# Altium footprint library 10POS JST.PcbLib: 1 footprints
Each footprint in its own frame and in the unit in brackets; x right, y up, seen from the top. Pads: shape width x height; smd on the part's side, far side on the other; paste and mask are expansions set on the pad; w line width, h text height; cw(c..) or ccw(c..) is an arc to the next point about the centre after c.
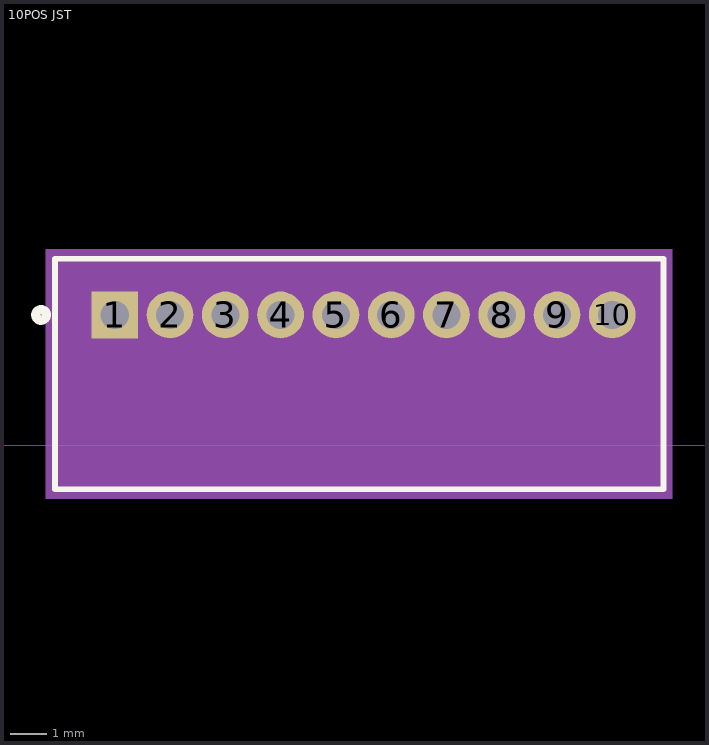
[diagram p0: the footprint, top view; thin cyan lines are the x and y axes]

## 10POS JST [mm]
pads (10):
  rect 1.27x1.27 hole 0.762 mask+0: 1(5.035,3.535)
  round 1.27 hole 0.762 mask+0: 2(6.535,3.535) 3(8.035,3.535) 4(9.535,3.535) 5(11.035,3.535) 6(12.535,3.535) 7(14.035,3.535) 8(15.535,3.535) 9(17.035,3.535) 10(18.535,3.535)
Top Overlay:
  circle w0.254: c3.035,3.535 r0.141
  lines w0.152: 3.413,-1.192 3.413,5.056 19.925,5.056 19.925,-1.192 3.413,-1.192
Mechanical 5:
  region: 3.159,5.31 20.16,5.31 20.16,-1.446 3.159,-1.446
Mechanical 13:
  lines w0.025: 3.54,-1.065 3.54,4.929 14.03,4.929 14.03,-1.065 3.54,-1.065
Mechanical 15:
  region: 14.284,5.183 3.286,5.183 3.286,-1.319 14.284,-1.319
  lines w0.152: 3.286,-1.319 14.284,-1.319 14.284,5.183 3.286,5.183 3.286,-1.319